# Altium schematic symbol library fuses.SchLib: 18 symbols
Pins are listed as number, name and electrical type; pins without a type are passive.

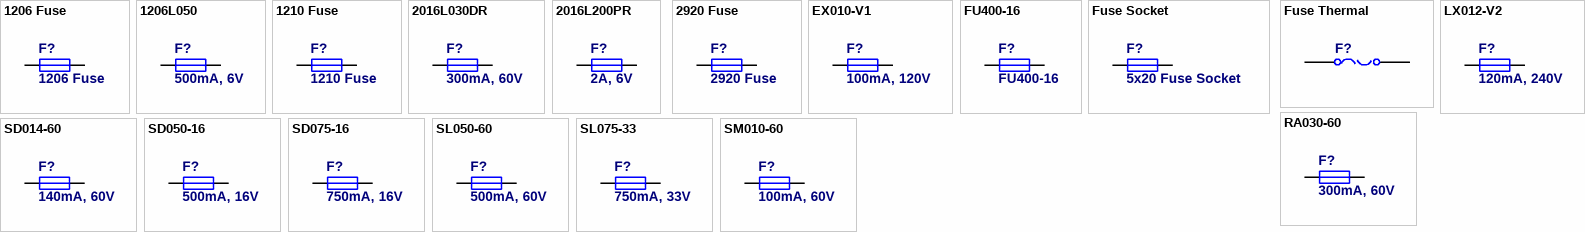
[diagram p0: symbols 1206 Fuse to SM010-60]

## 1206 Fuse
designator F?
1206 PTC Polymer Fuse; Published: 8-Jun-2000; LatestRevisionDate: 17-Jul-2002; LatestRevisionNote: Re-released for DXP Platform.; PackageReference: PIN-W2/E2.8; Publisher: Altium Limited; PackageDescription: Thru-Hole; 2 Leads
simulation model FUSE (Spice Subcircuit)
footprint F1206 (1206 Fuse: PTC polymer)
pins: 1, 2

## 1206L050
designator F?, comment 500mA, 6V
500mA, 6V PTC Fuse; Published: 8-Jun-2000; LatestRevisionDate: 17-Jul-2002; LatestRevisionNote: Re-released for DXP Platform.; PackageReference: PIN-W2/E2.8; Publisher: Altium Limited; PackageDescription: Thru-Hole; 2 Leads; Supplier 1: TME; Supplier Part Number 1: SM010-60
simulation model FUSE (Spice Subcircuit)
footprint F1206 (1206 Fuse: PTC polymer)
pins: 1, 2

## 1210 Fuse
designator F?
1210 PTC Polymer Fuse; Published: 8-Jun-2000; LatestRevisionDate: 17-Jul-2002; LatestRevisionNote: Re-released for DXP Platform.; PackageReference: PIN-W2/E2.8; Publisher: Altium Limited; PackageDescription: Thru-Hole; 2 Leads
simulation model FUSE (Spice Subcircuit)
footprint F1210 (1210 Fuse: PTC polymer)
pins: 1, 2

## 2016L030DR
designator F?, comment 300mA, 60V
300mA, 60V PTC Fuse; Published: 8-Jun-2000; LatestRevisionDate: 17-Jul-2002; LatestRevisionNote: Re-released for DXP Platform.; PackageReference: PIN-W2/E2.8; Publisher: Altium Limited; PackageDescription: Thru-Hole; 2 Leads; Supplier 1: TME; Supplier Part Number 1: SM010-60
simulation model FUSE (Spice Subcircuit)
footprint F2016L (2016L PTC Fuse)
pins: 1, 2

## 2016L200PR
designator F?, comment 2A, 6V
2A, 6V PTC Fuse; Published: 8-Jun-2000; LatestRevisionDate: 17-Jul-2002; LatestRevisionNote: Re-released for DXP Platform.; PackageReference: PIN-W2/E2.8; Publisher: Altium Limited; PackageDescription: Thru-Hole; 2 Leads; Supplier 1: TME; Supplier Part Number 1: SM010-60
simulation model FUSE (Spice Subcircuit)
footprint F2016L (2016L PTC Fuse)
pins: 1, 2

## 2920 Fuse
designator F?
2920 PTC Polymer Fuse; Published: 8-Jun-2000; LatestRevisionDate: 17-Jul-2002; LatestRevisionNote: Re-released for DXP Platform.; PackageReference: PIN-W2/E2.8; Publisher: Altium Limited; PackageDescription: Thru-Hole; 2 Leads
simulation model FUSE (Spice Subcircuit)
footprint 2920 (2920 size SMD resistor)
pins: 1, 2

## EX010-V1
designator F?, comment 100mA, 120V
EX010-V1: 100mA, 120V PTC Fuse; Published: 8-Jun-2000; LatestRevisionDate: 17-Jul-2002; LatestRevisionNote: Re-released for DXP Platform.; PackageReference: PIN-W2/E2.8; Publisher: Altium Limited; PackageDescription: Thru-Hole; 2 Leads; Supplier 1: TME; Supplier Part Number 1: EX010-V1
simulation model FUSE (Spice Subcircuit)
footprint EX01x (Radial Leaded Type PTC)
pins: 1, 2

## FU400-16
designator F?
ECE FU400-16 PTC Fuse; Published: 8-Jun-2000; LatestRevisionDate: 17-Jul-2002; LatestRevisionNote: Re-released for DXP Platform.; PackageReference: PIN-W2/E2.8; Publisher: Altium Limited; PackageDescription: Thru-Hole; 2 Leads; Supplier 1: TME; Supplier Part Number 1: FU400-16
simulation model FUSE (Spice Subcircuit)
footprint FU400-16
pins: 1, 2

## Fuse Socket
designator F?, comment 5x20 Fuse Socket
Published: 8-Jun-2000; LatestRevisionDate: 17-Jul-2002; LatestRevisionNote: Re-released for DXP Platform.; PackageReference: PIN-W2/E2.8; Publisher: Altium Limited; PackageDescription: Thru-Hole; 2 Leads
simulation model FUSE (Spice Subcircuit)
footprint Bezp 5x20 uniw
footprint Bezp 5x20 uniw II
pins: 1, 2

## Fuse Thermal
designator F?
Thermal Fuse; Published: 24-Mar-1999; LatestRevisionDate: 17-Jul-2002; LatestRevisionNote: Re-released for DXP Platform.; Publisher: Altium Limited
footprint TO220/2
pins: 1, 2

## LX012-V2
designator F?, comment 120mA, 240V
LX012-V2: 120mA, 240V PTC Fuse; Published: 8-Jun-2000; LatestRevisionDate: 17-Jul-2002; LatestRevisionNote: Re-released for DXP Platform.; PackageReference: PIN-W2/E2.8; Publisher: Altium Limited; PackageDescription: Thru-Hole; 2 Leads
simulation model FUSE (Spice Subcircuit)
footprint LX0xx-V2 (Radial Leaded Type PTC)
pins: 1, 2

## RA030-60
designator F?, comment 300mA, 60V
RA030-60: 300mA, 60V PTC Fuse; Published: 8-Jun-2000; LatestRevisionDate: 17-Jul-2002; LatestRevisionNote: Re-released for DXP Platform.; PackageReference: PIN-W2/E2.8; Publisher: Altium Limited; PackageDescription: Thru-Hole; 2 Leads; Supplier 1: TME; Supplier Part Number 1: EX010-V1
simulation model FUSE (Spice Subcircuit)
footprint EX01x (Radial Leaded Type PTC)
pins: 1, 2

## SD014-60
designator F?, comment 140mA, 60V
SD014-60: 140mA, 60V PTC Fuse; Published: 8-Jun-2000; LatestRevisionDate: 17-Jul-2002; LatestRevisionNote: Re-released for DXP Platform.; PackageReference: PIN-W2/E2.8; Publisher: Altium Limited; PackageDescription: Thru-Hole; 2 Leads; Supplier 1: TME; Supplier Part Number 1: SD014-60
simulation model FUSE (Spice Subcircuit)
footprint F1812 (2016L PTC Fuse)
pins: 1, 2

## SD050-16
designator F?, comment 500mA, 16V
SD050-16: 500mA, 16V PTC Fuse; Published: 8-Jun-2000; LatestRevisionDate: 17-Jul-2002; LatestRevisionNote: Re-released for DXP Platform.; PackageReference: PIN-W2/E2.8; Publisher: Altium Limited; PackageDescription: Thru-Hole; 2 Leads; Supplier 1: TME; Supplier Part Number 1: SD014-60
simulation model FUSE (Spice Subcircuit)
footprint F1812 (2016L PTC Fuse)
pins: 1, 2

## SD075-16
designator F?, comment 750mA, 16V
SD075-16: 750mA, 16V PTC Fuse; Published: 8-Jun-2000; LatestRevisionDate: 17-Jul-2002; LatestRevisionNote: Re-released for DXP Platform.; PackageReference: PIN-W2/E2.8; Publisher: Altium Limited; PackageDescription: Thru-Hole; 2 Leads; Supplier 1: TME; Supplier Part Number 1: SD075-16
simulation model FUSE (Spice Subcircuit)
footprint F1812 (2016L PTC Fuse)
pins: 1, 2

## SL050-60
designator F?, comment 500mA, 60V
SL050-60: 500mA, 60V PTC Fuse; Published: 8-Jun-2000; LatestRevisionDate: 17-Jul-2002; LatestRevisionNote: Re-released for DXP Platform.; PackageReference: PIN-W2/E2.8; Publisher: Altium Limited; PackageDescription: Thru-Hole; 2 Leads; Supplier 1: TME; Supplier Part Number 1: SL050-60
simulation model FUSE (Spice Subcircuit)
footprint F2920 (2920 size SMD resistor)
pins: 1, 2

## SL075-33
designator F?, comment 750mA, 33V
SL075-33: 750mA, 33V PTC Fuse; Published: 8-Jun-2000; LatestRevisionDate: 17-Jul-2002; LatestRevisionNote: Re-released for DXP Platform.; PackageReference: PIN-W2/E2.8; Publisher: Altium Limited; PackageDescription: Thru-Hole; 2 Leads; Supplier 1: TME; Supplier Part Number 1: SL075-33
simulation model FUSE (Spice Subcircuit)
footprint F2920 (2920 size SMD resistor)
pins: 1, 2

## SM010-60
designator F?, comment 100mA, 60V
SM010-60: 100mA, 60V PTC Fuse; Published: 8-Jun-2000; LatestRevisionDate: 17-Jul-2002; LatestRevisionNote: Re-released for DXP Platform.; PackageReference: PIN-W2/E2.8; Publisher: Altium Limited; PackageDescription: Thru-Hole; 2 Leads; Supplier 1: TME; Supplier Part Number 1: SM010-60
simulation model FUSE (Spice Subcircuit)
footprint F1210 (1210 Fuse: PTC polymer)
pins: 1, 2